# Altium footprint library PCB - LEADLESS - QFN - LTC QFN-16 UD.PcbLib: 1 footprints
Each footprint in its own frame and in the unit in brackets; x right, y up, seen from the top. Pads: shape width x height; smd on the part's side, far side on the other; paste and mask are expansions set on the pad; w line width, h text height; cw(c..) or ccw(c..) is an arc to the next point about the centre after c.
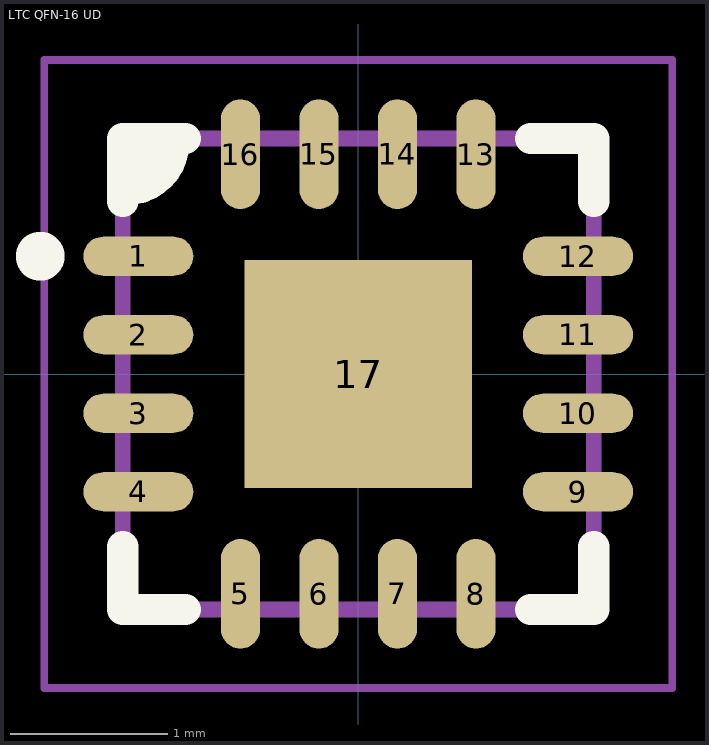
[diagram p0: the footprint, top view; thin cyan lines are the x and y axes]

## LTC QFN-16 UD [mm] "16-lead Plastic QFN 3x3mm 0.75mm high."
height 0.8
pads (17):
  oval 0.7x0.25 smd mask+0.082: 1(-1.4,0.75) 2(-1.4,0.25) 3(-1.4,-0.25) 4(-1.4,-0.75) 9(1.4,-0.75) 10(1.4,-0.25) 11(1.4,0.25) 12(1.4,0.75)
  oval 0.25x0.7 smd mask+0.082: 5(-0.75,-1.4) 6(-0.25,-1.4) 7(0.25,-1.4) 8(0.75,-1.4) 13(0.75,1.4) 14(0.25,1.4) 15(-0.25,1.4) 16(-0.75,1.4)
  rect 1.45x1.45 smd mask+0.082: 17(0,0)
Top Overlay:
  circle w0.254: c-2.025,0.75 r0.028
  region: -1.519,1.3 -1.419,1.2 -1.181,1.3 -1.181,1.437 -1.227,1.525 -1.519,1.525
  lines w0.2: -1.5,-1.1 -1.5,-1.5 -1.1,-1.5 ; -1.5,1.1 -1.5,1.5 -1.1,1.5 ; -1.475,1.175 ccw(c-1.475,1.475) -1.175,1.475 ; 1.1,-1.5 1.5,-1.5 1.5,-1.1 ; 1.1,1.5 1.5,1.5 1.5,1.1
Mechanical 13:
  lines w0.1: -1.5,-1.5 -1.5,1.5 1.5,1.5 1.5,-1.5 -1.5,-1.5
Mechanical 15 (Mech15):
  lines w0.05: -2,-2 -2,2 2,2 2,-2 -2,-2
  lines w0.1: -0.5,0 0.5,0 ; 0,-0.5 0,0.5
3D body "LTC - QFN-16 UD.step": height 0.85, standoff 0, extent -1.5,-1.5 1.5,1.5